# Altium schematic symbol library OP07CP.SchLib: 1 symbol
Pins are listed as number, name and electrical type; pins without a type are passive.

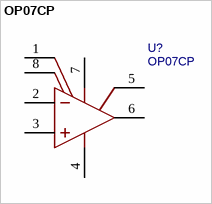
[diagram p0: symbol OP07CP]

## OP07CP
designator U?
Manufacturer: TI(德州仪器); spicePre: X; Supplier: LCSC; Manufacturer Part: OP07CP; Supplier Part: C5224; JLCPCB Part Class: Extended Part; spiceSymbolName: OP07CP
footprint DIP-8_L9.6-W6.4-P2.54-LS7.6-BL-1
pins: 1, 2, 3, 4, 5, 6, 7, 8